# Altium footprint library MillMax.pcblib: 1 footprints
Each footprint in its own frame and in the unit in brackets; x right, y up, seen from the top. Pads: shape width x height; smd on the part's side, far side on the other; paste and mask are expansions set on the pad; w line width, h text height; cw(c..) or ccw(c..) is an arc to the next point about the centre after c.
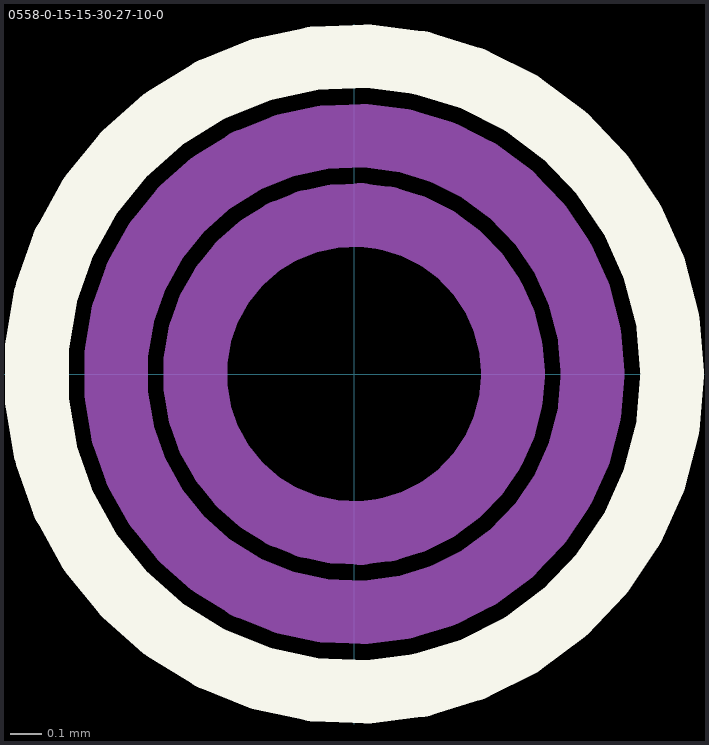
[diagram p0: the footprint, top view; thin cyan lines are the x and y axes]

## 0558-0-15-15-30-27-10-0 [mm] "Single socket, pin size 0.38 - 0.64mm"
Top Overlay:
  circle w0.2: c0,0 r1
Mechanical 15:
  circle w0.2: c0,0 r0.75
  circle w0.2: c0,0 r0.5
3D body: height 0.68, standoff -2.32, extent -0.496,-0.499 0.5,0.499
3D body: height 0.6, standoff 0, extent -0.694,-0.698 0.7,0.699